# Altium footprint library CAPC.PcbLib: 4 footprints
Each footprint in its own frame and in the unit in brackets; x right, y up, seen from the top. Pads: shape width x height; smd on the part's side, far side on the other; paste and mask are expansions set on the pad; w line width, h text height; cw(c..) or ccw(c..) is an arc to the next point about the centre after c.
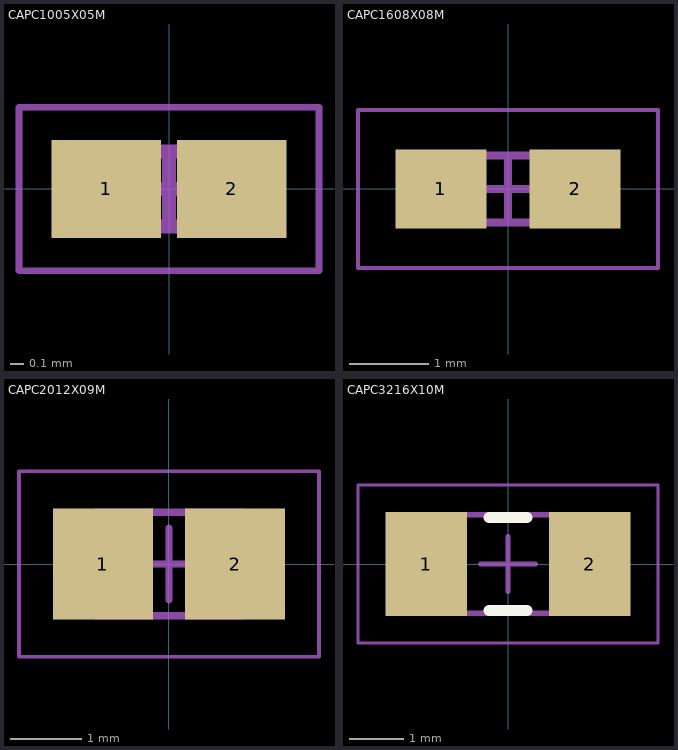
[diagram p0: the footprints below, top view; thin cyan lines are the x and y axes]

## CAPC1005X05M [mm] "Chip Capacitor, 2-Leads, Body 1.00x0.50mm, IPC Low Density"
height 0.5
pads (2):
  rect 0.8x0.72 smd: 1(-0.46,0) 2(0.46,0)
Top Assembly:
  lines w0.1: -0.275,0 0.275,0 ; 0,-0.275 0,0.275 ; -0.525,-0.275 -0.525,0.275 0.525,0.275 0.525,-0.275 -0.525,-0.275
  text ".Designator" at 1.3,-0.133 h0.8
Top Courtyard:
  lines w0.05: -1.1,-0.6 -1.1,0.6 1.1,0.6 1.1,-0.6 -1.1,-0.6
  lines w0.1: -0.275,0 0.275,0 ; 0,-0.275 0,0.275
3D body "CAPC1005X05M.step": height 0.5, standoff 0, extent -0.525,-0.275 0.525,0.275

## CAPC1608X08M [mm] "Chip Capacitor, 2-Leads, Body 1.60x0.80mm, IPC Low Density"
height 0.8
pads (2):
  rect 1.15x1 smd: 1(-0.85,0) 2(0.85,0)
Top Assembly:
  lines w0.1: -0.275,0 0.275,0 ; 0,-0.275 0,0.275 ; -0.825,-0.425 -0.825,0.425 0.825,0.425 0.825,-0.425 -0.825,-0.425
  text ".Designator" at 1.3,-0.133 h0.8
Top Courtyard:
  lines w0.05: -1.9,-1 -1.9,1 1.9,1 1.9,-1 -1.9,-1
  lines w0.1: -0.425,0 0.425,0 ; 0,-0.425 0,0.425
3D body "CAPC1608X08M.step": height 0.8, standoff 0, extent -0.825,-0.425 0.825,0.425

## CAPC2012X09M [mm] "Chip Capacitor, 2-Leads, Body 2.00x1.25mm, IPC Low Density"
height 0.9
pads (2):
  rect 1.4x1.55 smd: 1(-0.925,0) 2(0.925,0)
Top Assembly:
  lines w0.1: -0.275,0 0.275,0 ; 0,-0.275 0,0.275 ; -1.025,-0.725 -1.025,0.725 1.025,0.725 1.025,-0.725 -1.025,-0.725
  text ".Designator" at 1.863,-0.279 h0.8
Top Courtyard:
  lines w0.05: -2.1,-1.3 -2.1,1.3 2.1,1.3 2.1,-1.3 -2.1,-1.3
  lines w0.1: -0.5,0 0.5,0 ; 0,-0.5 0,0.5
3D body "CAPC2012X09M.step": height 0.9, standoff 0, extent -1.025,-0.725 1.025,0.725

## CAPC3216X10M [mm] "Chip Capacitor, 2-Leads, Body 3.20x1.60mm, IPC Low Density"
height 1
pads (2):
  rect 1.5x1.9 smd: 1(-1.5,0) 2(1.5,0)
Top Overlay:
  lines w0.2: -0.35,-0.85 0.35,-0.85 ; -0.35,0.85 0.35,0.85
Top Assembly:
  lines w0.1: -0.275,0 0.275,0 ; 0,-0.275 0,0.275 ; -1.7,-0.9 1.7,-0.9 1.7,0.9 -1.7,0.9 -1.7,-0.9
  text ".Designator" at 1.9,-0.433 h0.8
Top Courtyard:
  lines w0.05: -2.75,-1.45 2.75,-1.45 2.75,1.45 -2.75,1.45 -2.75,-1.45
  lines w0.1: -0.5,0 0.5,0 ; 0,-0.5 0,0.5
3D body "CAPC3216X10M.step": height 1, standoff 0, extent -1.7,-0.9 1.7,0.9